# EAGLE library part ACS711 (library jesse)
Current Sensor
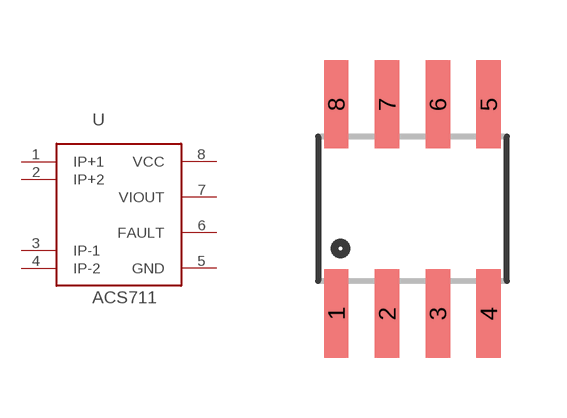
[diagram p2: symbol with the pads of SO8; footprint SO8]

Designator prefix U

## ACS711  [SO8]
1  IP+1
2  IP+2
3  IP-1
4  IP-2
5  GND
6  FAULT
7  VIOUT
8  VCC

## Footprint SO8 (pad centres in mm)
smd 0.61 x 2.21: 1 -1.905,-2.616; 2 -0.635,-2.616; 3 0.635,-2.616; 4 1.905,-2.616; 5 1.905,2.616; 6 0.635,2.616; 7 -0.635,2.616; 8 -1.905,2.616